# EAGLE library part LP4XX1PBAXX (library switch-e-switch)
SWITCH PUSH DPDT 0.1A 30V
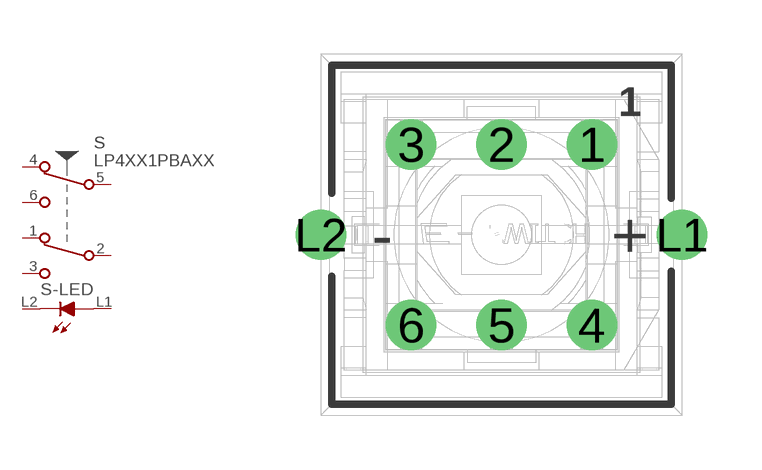
[diagram p17: symbol with the pads of LP4XX1PBAXX; footprint LP4XX1PBAXX]

Designator prefix S; gates G$1=2PDT-PV -LED=2PDT-LED

## LP4XX1PBAXX  [LP4XX1PBAXX]
1  G$1:B-NC  pas
2  G$1:B-COM  pas
3  G$1:B-NO  pas
4  G$1:A-NC  pas
5  G$1:A-COM  pas
6  G$1:A-NO  pas
L1  -LED:A  pas
L2  -LED:C  pas

## Footprint LP4XX1PBAXX (pad centres in mm)
drill 0.889: 1 2.5,2.5; 2 0,2.5; 3 -2.5,2.5; 4 2.5,-2.5; 5 0,-2.5; 6 -2.5,-2.5; L1 5,0; L2 -5,0